# Altium footprint library SO_DIODES_3D.PcbLib: 12 footprints
Each footprint in its own frame and in the unit in brackets; x right, y up, seen from the top. Pads: shape width x height; smd on the part's side, far side on the other; paste and mask are expansions set on the pad; w line width, h text height; cw(c..) or ccw(c..) is an arc to the next point about the centre after c.
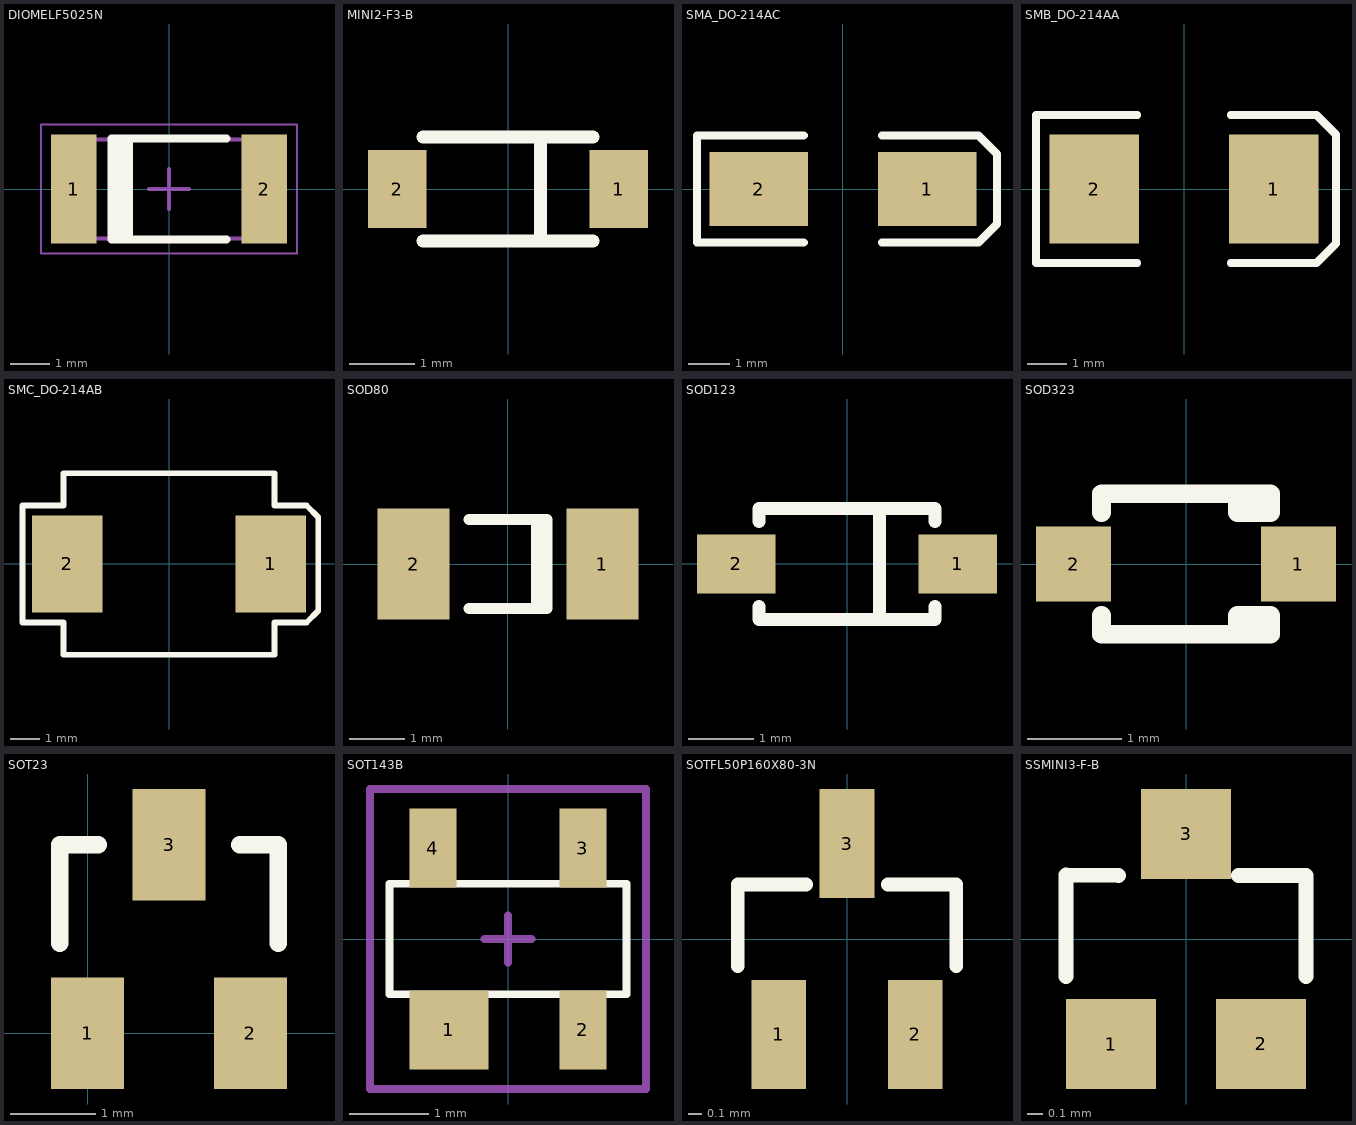
[diagram p0: the footprints below, top view; thin cyan lines are the x and y axes]

## DIOMELF5025N [mm] "MELF Diode, 2-Leads, Body 5.00x2.50mm, IPC Medium Density"
height 2.5
pads (2):
  rect 1.15x2.75 smd: 1(-2.4,0) 2(2.4,0)
Top Overlay:
  rectangle: -1.45,-1.275 -0.9,1.275
  lines w0.2: 1.45,-1.275 -1.45,-1.275 -1.45,1.275 1.45,1.275
Mechanical 13:
  lines w0.1: -2.5,-1.25 2.5,-1.25 2.5,1.25 -2.5,1.25 -2.5,-1.25
Mechanical 15:
  lines w0.05: -3.225,-1.625 3.225,-1.625 3.225,1.625 -3.225,1.625 -3.225,-1.625
  lines w0.1: -0.5,0 0.5,0 ; 0,-0.5 0,0.5
3D body: height 2.49, standoff 0, extent 2,-1.25 2.5,1.245
3D body: height 2.48, standoff 0.04, extent -2,-1.22 2,1.215
3D body: height 2.48, standoff 0.04, extent -1.4,-1.221 -0.8,1.216
3D body: height 2.49, standoff 0, extent -2.5,-1.25 -2,1.245

## MINI2-F3-B [mm] "Body 2.6x1.6mm"
height 0.8
pads (2):
  rect 0.9x1.2 smd: 1(1.7,0) 2(-1.7,0)
Top Overlay:
  lines w0.2: -1.3,-0.8 1.3,-0.8 ; -1.3,0.8 1.3,0.8 ; 0.5,-0.8 0.5,0.8
3D body: height 0.81, standoff 0.8, extent 0.9,-0.8 1.1,0.8
3D body: height 0.8, standoff 0.05, extent -1.3,-0.8 1.3,0.8
3D body: height 0.2, standoff 0, extent -1.75,-0.45 -1.1,0.45
3D body: height 0.2, standoff 0, extent 1.1,-0.45 1.75,0.45

## SMA_DO-214AC [mm] "Body 4.6x2.8mm"
height 2.5
pads (2):
  rect 2.4x1.8 smd: 1(2.05,0) 2(-2.05,0)
Top Overlay:
  lines w0.2: -0.95,-1.3 -3.55,-1.3 -3.55,1.3 -0.95,1.3 ; 0.95,-1.3 3.3,-1.3 3.75,-0.85 3.75,0.85 3.3,1.3 0.95,1.3
3D body: height 1.2, standoff 1, extent 2.3,-0.8 2.7,0.8
3D body: height 1.2, standoff 0, extent 2.5,-0.8 2.7,0.8
3D body: height 0.2, standoff 0, extent 1.9,-0.8 2.7,0.8
3D body: height 1.2, standoff 0, extent -2.7,-0.8 -2.5,0.8
3D body: height 0.2, standoff 0, extent -2.7,-0.8 -1.9,0.8
3D body: height 1.2, standoff 1, extent -2.7,-0.8 -2.3,0.8
3D body: height 2.4, standoff 0.2, extent -2.3,-1.4 2.3,1.4
3D body: height 2.41, standoff 2.4, extent 1.5,-1.4 1.8,1.4

## SMB_DO-214AA [mm] "Body 4.6x4mm"
height 2.5
pads (2):
  rect 2.3x2.8 smd: 1(2.3,0) 2(-2.3,0)
Top Overlay:
  lines w0.2: -1.2,-1.9 -3.8,-1.9 -3.8,1.9 -1.2,1.9 ; 1.2,-1.9 3.4,-1.9 3.9,-1.4 3.9,1.4 3.4,1.9 1.2,1.9
3D body: height 1.2, standoff 0, extent 2.6,-1 2.8,1
3D body: height 0.2, standoff 0, extent 1.6,-1 2.8,1
3D body: height 1.2, standoff 1, extent 2.3,-1 2.8,1
3D body: height 2.5, standoff 0.2, extent -2.3,-2 2.3,2
3D body: height 2.51, standoff 2.5, extent 1.4,-2 1.8,2
3D body: height 0.2, standoff 0, extent -2.8,-1 -1.6,1
3D body: height 1.2, standoff 1, extent -2.8,-1 -2.3,1
3D body: height 1.2, standoff 0, extent -2.8,-1 -2.6,1

## SMC_DO-214AB [mm] "Body 7.2x6.2mm"
height 2.6
pads (2):
  rect 2.4x3.3 smd: 1(3.475,0) 2(-3.475,0)
Top Overlay:
  lines w0.2: -5,-2 -3.6,-2 -3.6,-3.1 3.6,-3.1 3.6,-2 4.7,-2 5.1,-1.6 5.1,1.6 4.7,2 3.6,2 3.6,3.1 -3.6,3.1 -3.6,2 -5,2 -5,-2
3D body: height 2.61, standoff 2.6, extent 2.2,-3.1 2.7,3.1
3D body: height 1.3, standoff 0, extent -4.1,-1.6 -3.9,1.6
3D body: height 1.3, standoff 1.1, extent -4.1,-1.6 -3.6,1.6
3D body: height 0.2, standoff 0, extent -4.1,-1.6 -2.8,1.6
3D body: height 1.3, standoff 0, extent 3.9,-1.6 4.1,1.6
3D body: height 0.2, standoff 0, extent 2.8,-1.6 4.1,1.6
3D body: height 1.3, standoff 1.1, extent 3.6,-1.6 4.1,1.6
3D body: height 2.6, standoff 0.2, extent -3.6,-3.1 3.6,3.1

## SOD80 [mm] "MELF; Body 3.7x1.6mm"
height 1.6
pads (2):
  rect 1.3x2 smd: 1(1.7,0) 2(-1.7,0)
Top Overlay:
  lines w0.2: -0.7,-0.8 0.7,-0.8 0.7,0.8 -0.7,0.8 ; 0.51,-0.8 0.51,0.8
3D body: height 1.59, standoff 0, extent 1.5,-0.798 1.8,0.798
3D body: height 1.54, standoff 0.05, extent -1.5,-0.75 1.5,0.747
3D body: height 1.59, standoff 0, extent -1.8,-0.798 -1.5,0.798
3D body: height 1.55, standoff 0.04, extent 0.9,-0.76 1.2,0.757

## SOD123 [mm] "Body 2.8x1.8mm"
height 1.2
pads (2):
  rect 1.2x0.9 smd: 1(1.7,0) 2(-1.7,0)
Top Overlay:
  lines w0.2: -1.35,-0.65 -1.35,-0.85 1.35,-0.85 1.35,-0.65 ; -1.35,0.65 -1.35,0.85 1.35,0.85 1.35,0.65 ; 0.5,-0.85 0.5,0.85
3D body: height 1.21, standoff 1.2, extent 1,-0.9 1.4,0.9
3D body: height 1.2, standoff 0.2, extent -1.4,-0.9 1.4,0.9
3D body: height 0.6, standoff 0.4, extent 1.4,-0.3 1.8,0.3
3D body: height 0.2, standoff 0, extent 1.6,-0.3 2,0.3
3D body: height 0.6, standoff 0, extent 1.6,-0.3 1.8,0.3
3D body: height 0.6, standoff 0, extent -1.8,-0.3 -1.6,0.3
3D body: height 0.2, standoff 0, extent -2,-0.3 -1.6,0.3
3D body: height 0.6, standoff 0.4, extent -1.8,-0.3 -1.4,0.3

## SOD323 [mm] "SC-76; Body 1.8x1.3mm"
height 1.1
pads (2):
  rect 0.8x0.8 smd: 1(1.2,0) 2(-1.2,0)
Top Overlay:
  lines w0.2: -0.9,-0.55 -0.9,-0.75 0.9,-0.75 0.9,-0.55 0.55,-0.55 0.55,-0.75 ; -0.9,0.55 -0.9,0.75 0.9,0.75 0.9,0.55 0.55,0.55 0.55,0.75
3D body: height 1.11, standoff 1.1, extent 0.3,-0.85 0.9,0.85
3D body: height 0.8, standoff 0, extent 0.95,-0.2 1.15,0.2
3D body: height 0.2, standoff 0, extent 0.95,-0.2 1.35,0.2
3D body: height 0.8, standoff 0.6, extent 0.9,-0.2 1.15,0.2
3D body: height 1.1, standoff 0, extent -0.9,-0.85 0.9,0.85
3D body: height 0.8, standoff 0.6, extent -1.15,-0.2 -0.9,0.2
3D body: height 0.2, standoff 0, extent -1.35,-0.2 -0.95,0.2
3D body: height 0.8, standoff 0, extent -1.15,-0.2 -0.95,0.2

## SOT23 [mm] "Body 3x1.4mm"
height 1.1
pads (3):
  rect 0.85x1.3 smd: 1(0,0) 2(1.9,0) 3(0.95,2.2)
Top Overlay:
  lines w0.2: -0.325,1.05 -0.325,2.2 0.125,2.2 ; 1.775,2.2 2.225,2.2 2.225,1.05
3D body: height 0.5, standoff 0.35, extent -0.25,0.15 0.25,0.4
3D body: height 0.5, standoff 0, extent -0.25,0.1 0.25,0.15
3D body: height 0.15, standoff 0, extent -0.25,-0.15 0.25,0.1
3D body: height 0.5, standoff 0.35, extent 1.65,0.15 2.15,0.4
3D body: height 0.5, standoff 0, extent 1.65,0.1 2.15,0.15
3D body: height 0.15, standoff 0, extent 1.65,-0.15 2.15,0.1
3D body: height 1.1, standoff 0.1, extent -0.55,0.4 2.45,1.8
3D body: height 0.15, standoff 0, extent 0.7,2.1 1.2,2.35
3D body: height 0.5, standoff 0, extent 0.7,2.05 1.2,2.1
3D body: height 0.5, standoff 0.35, extent 0.7,1.8 1.2,2.05

## SOT143B [mm] "4 pin"
height 1.1
pads (4):
  rect 1x1 smd: 1(-0.75,-1.15)
  rect 0.6x1 smd: 2(0.95,-1.15) 3(0.95,1.15) 4(-0.95,1.15)
Top Overlay:
  lines w0.1: -1.5,-0.7 1.5,-0.7 1.5,0.7 -1.5,0.7 -1.5,-0.7
Mechanical 15:
  lines w0.1: -0.3,0 0.3,0 ; 0,-0.3 0,0.3 ; -1.75,-1.9 1.75,-1.9 1.75,1.9 -1.75,1.9 -1.75,-1.9
3D body: height 0.5, standoff 0.35, extent -1.2,0.7 -0.7,0.95
3D body: height 0.5, standoff 0, extent -1.2,0.95 -0.7,1
3D body: height 0.15, standoff 0, extent -1.2,1 -0.7,1.25
3D body: height 0.5, standoff 0.35, extent 0.7,0.7 1.2,0.95
3D body: height 0.5, standoff 0, extent 0.7,0.95 1.2,1
3D body: height 0.15, standoff 0, extent 0.7,1 1.2,1.25
3D body: height 0.5, standoff 0.35, extent 0.7,-0.95 1.2,-0.7
3D body: height 0.5, standoff 0, extent 0.7,-1 1.2,-0.95
3D body: height 0.15, standoff 0, extent 0.7,-1.25 1.2,-1
3D body: height 0.5, standoff 0.35, extent -1.2,-0.95 -0.3,-0.7
3D body: height 0.5, standoff 0, extent -1.2,-1 -0.3,-0.95
3D body: height 0.15, standoff 0, extent -1.2,-1.25 -0.3,-1
3D body: height 1.1, standoff 0.1, extent -1.5,-0.7 1.5,0.7

## SOTFL50P160X80-3N [mm] "1,6x0,85x0,8mm (SOT-490, SC-89)"
height 0.8
pads (3):
  rect 0.4x0.8 smd: 1(-0.5,-0.7) 2(0.5,-0.7) 3(0,0.7)
Top Overlay:
  lines w0.1: -0.8,-0.2 -0.8,0.4 -0.3,0.4 ; 0.3,0.4 0.8,0.4 0.8,-0.2
3D body: height 0.2, standoff 0, extent 0.35,-0.85 0.65,-0.425
3D body: height 0.2, standoff 0, extent -0.65,-0.85 -0.35,-0.425
3D body: height 0.2, standoff 0, extent -0.15,0.425 0.15,0.85
3D body: height 0.8, standoff 0, extent -0.8,-0.425 0.8,0.425

## SSMINI3-F-B [mm] "Body 1,6x0.85mm (SOT-490, SC-89)"
height 0.7
pads (3):
  rect 0.6x0.6 smd: 1(-0.5,-0.7) 2(0.5,-0.7) 3(0,0.7)
Top Overlay:
  lines w0.1: -0.8,-0.25 -0.8,0.425 -0.45,0.425 ; 0.35,0.425 0.8,0.425 0.8,-0.25
3D body: height 0.15, standoff 0, extent -0.625,-0.8 -0.375,-0.3
3D body: height 0.7, standoff 0.1, extent -0.8,-0.425 0.8,0.425
3D body: height 0.15, standoff 0, extent 0.375,-0.8 0.625,-0.3
3D body: height 0.15, standoff 0, extent -0.125,0.3 0.125,0.8